# Altium schematic symbol library 0402B104K160CT.SchLib: 1 symbol
Pins are listed as number, name and electrical type; pins without a type are passive.

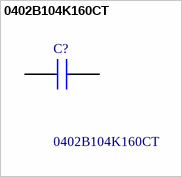
[diagram p0: symbol 0402B104K160CT]

## 0402B104K160CT
designator C?
Multilayer Ceramic Capacitors MLCC - SMD/SMT 0.1 uF 10% 16V; Manufacturer_Name: Walsin Technology Corporation; Geometry.Height: 0.55mm; Manufacturer_Part_Number: 0402B104K160CT; Mouser Part Number: 791-0402B104K160CT; Mouser Price/Stock: https://www.mouser.co.uk/ProductDetail/Walsin/0402B104K160CT?qs=fIkAfuXiAQJ1PS4dYXnTSQ%3D%3D; Arrow Part Number: *; Arrow Price/Stock: *; Datasheet Link: https://componentsearchengine.com/Datasheets/2/0402B104K160CT.pdf
footprint CAPC1005X55N
pins: 1, 2